# Altium footprint library XDCR_LIS3MDL.PcbLib: 1 footprints
Each footprint in its own frame and in the unit in brackets; x right, y up, seen from the top. Pads: shape width x height; smd on the part's side, far side on the other; paste and mask are expansions set on the pad; w line width, h text height; cw(c..) or ccw(c..) is an arc to the next point about the centre after c.
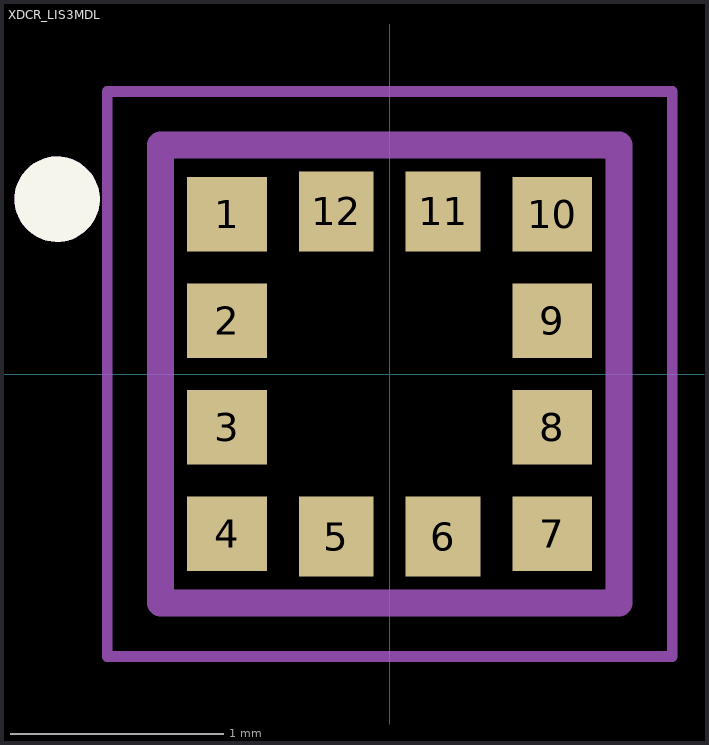
[diagram p0: the footprint, top view; thin cyan lines are the x and y axes]

## XDCR_LIS3MDL [mm]
height 1
pads (12):
  rect 0.375x0.35 smd mask+0.05: 1(-0.763,0.75) 2(-0.763,0.25) 3(-0.763,-0.25) 4(-0.763,-0.75) 7(0.763,-0.75) 8(0.763,-0.25) 9(0.763,0.25) 10(0.763,0.75)
  rect 0.35x0.375 smd mask+0: 5(-0.25,-0.763) 6(0.25,-0.763) 11(0.25,0.763) 12(-0.25,0.763)
Top Overlay:
  circle w0.2: c-1.56,0.82 r0.1
Top Solder:
  region: -0.025,-1 -0.475,-1 -0.475,-0.525 -0.025,-0.525
  region: -0.025,0.525 -0.475,0.525 -0.475,1 -0.025,1
  region: 0.475,0.525 0.025,0.525 0.025,1 0.475,1
  region: 0.475,-1 0.025,-1 0.025,-0.525 0.475,-0.525
Mechanical 13:
  circle w0.2: c-1.56,0.82 r0.1
  lines w0.127: -1.075,-1.075 -1.075,1.075 1.075,1.075 1.075,-1.075 -1.075,-1.075
Mechanical 15:
  lines w0.05: -1.325,-1.325 -1.325,1.325 1.325,1.325 1.325,-1.325 -1.325,-1.325
3D body "step_temp.STEP": height 1, standoff 0, extent -1,-1 1,1